# EAGLE library part EC11E1834403 (library alps_japan_potentiometers)
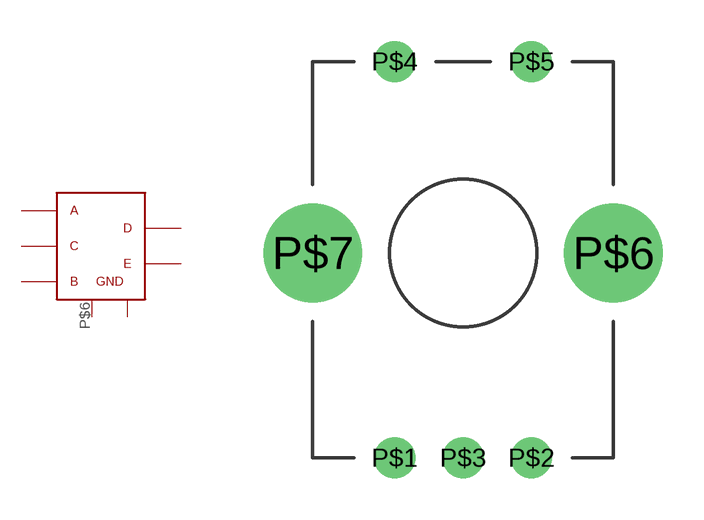
[diagram p3: symbol with the pads of EC11E1834403; footprint EC11E1834403]

Designator prefix -

## EC11E1834403  [EC11E1834403]
P$1  A
P$2  B
P$3  C
P$4  D
P$5  E
P$6  P$1  pwr
P$7  P$2  pwr

## Footprint EC11E1834403 (pad centres in mm)
drill 1: P$1 -2.5,-7.5; P$2 2.5,-7.5; P$3 0,-7.5; P$4 -2.5,7; P$5 2.5,7
drill 2.6: P$6 5.5,0; P$7 -5.5,0